# Altium schematic symbol library 961102-6404-AR.SchLib: 1 symbol
Pins are listed as number, name and electrical type; pins without a type are passive.

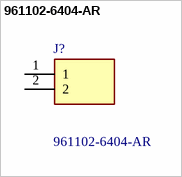
[diagram p0: symbol 961102-6404-AR]

## 961102-6404-AR
designator J?
3M 961, 2 Way, 1 Row, Straight Pin Header; Geometry.Height: 8.2mm; Mouser Part Number: 517-9611026404AR; Mouser Price/Stock: https://www.mouser.co.uk/ProductDetail/3M-Electronic-Solutions-Division/961102-6404-AR?qs=A%252BtsDZJT%252Bi9E8bBrCfg1XA%3D%3D; Manufacturer_Name: 3M; Manufacturer_Part_Number: 961102-6404-AR; Datasheet Link: *
footprint HDRV2W64P0X254_1X2_508X250X820P
pins: 1, 2